# Altium schematic symbol library dynge.SchLib: 1 symbol
Pins are listed as number, name and electrical type; pins without a type are passive.

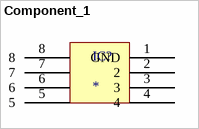
[diagram p0: symbol Component_1]

## Component_1
designator IC?
AVR ATMEGA162
footprint dynge
pins: 1 GND, 2, 3, 4, 5, 6, 7, 8